# EAGLE library part 5CSEBA2U19C8N (library ICs)
CPLD, MAX V, 160 LE, 64EQFP
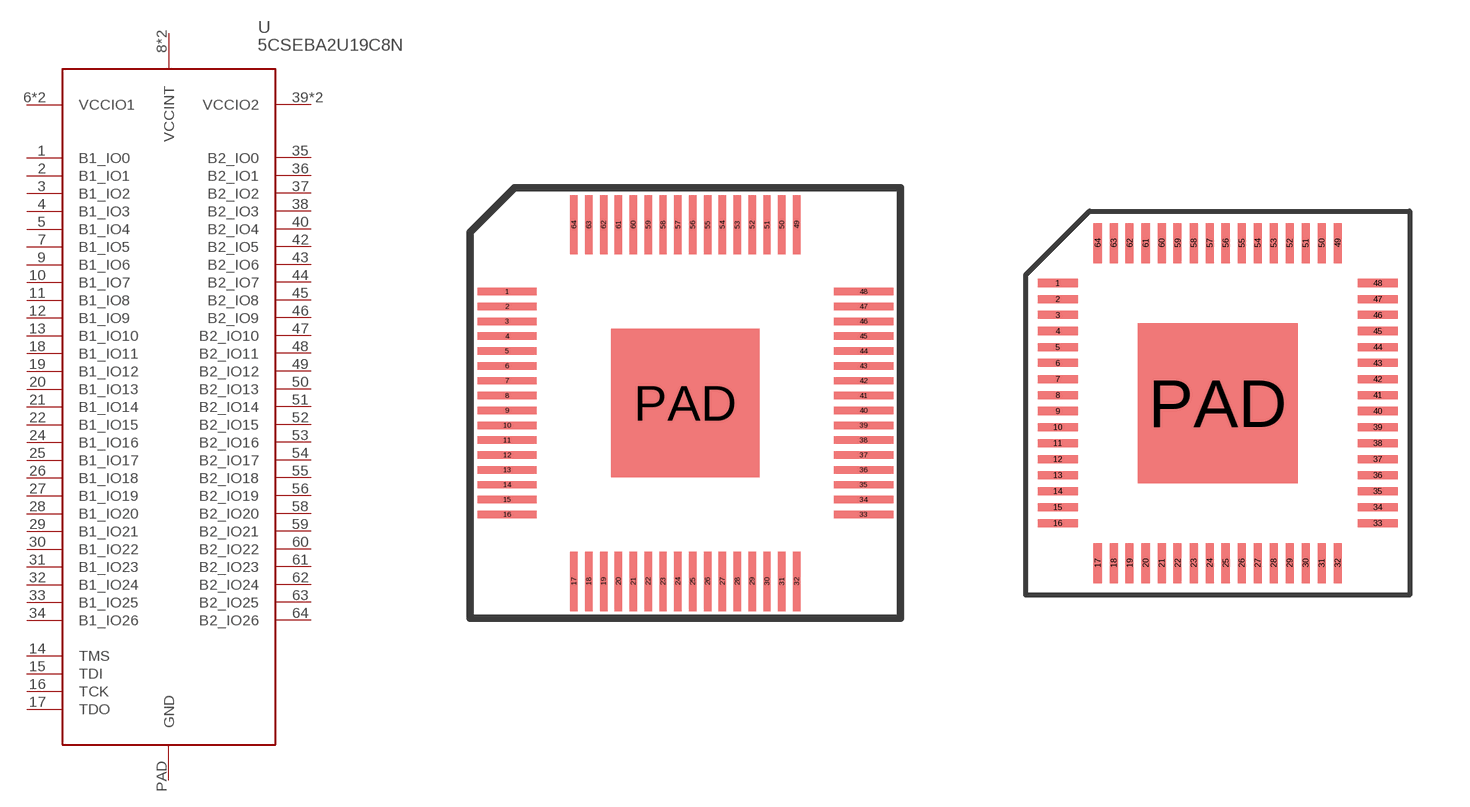
[diagram p81: symbol with the pads of QFP64_PAD; footprints QFP64_PAD, QFP64-0.4MM]

Designator prefix U

## 5CSEBA2U19C8N0.5MM (FARNELL: 2100795; PRICE_PER: 4.29; VALUE: 5M160Z)  [QFP64_PAD]
1  B1_IO0
2  B1_IO1
3  B1_IO2
4  B1_IO3
5  B1_IO4
6  VCCIO1
7  B1_IO5
8  VCCINT
9  B1_IO6
10  B1_IO7
11  B1_IO8
12  B1_IO9
13  B1_IO10
14  TMS
15  TDI
16  TCK
17  TDO
18  B1_IO11
19  B1_IO12
20  B1_IO13
21  B1_IO14
22  B1_IO15
23  VCCIO1
24  B1_IO16
25  B1_IO17
26  B1_IO18
27  B1_IO19
28  B1_IO20
29  B1_IO21
30  B1_IO22
31  B1_IO23
32  B1_IO24
33  B1_IO25
34  B1_IO26
35  B2_IO0
36  B2_IO1
37  B2_IO2
38  B2_IO3
39  VCCIO2
40  B2_IO4
41  VCCINT
42  B2_IO5
43  B2_IO6
44  B2_IO7
45  B2_IO8
46  B2_IO9
47  B2_IO10
48  B2_IO11
49  B2_IO12
50  B2_IO13
51  B2_IO14
52  B2_IO15
53  B2_IO16
54  B2_IO17
55  B2_IO18
56  B2_IO19
57  VCCIO2
58  B2_IO20
59  B2_IO21
60  B2_IO22
61  B2_IO23
62  B2_IO24
63  B2_IO25
64  B2_IO26
PAD  GND

## 5CSEBA2U19C8N  [QFP64-0.4MM]
Pads as for QFP64_PAD

## Footprint QFP64_PAD (pad centres in mm)
smd 2 x 0.25: 1 -6,3.75; 2 -6,3.25; 3 -6,2.75; 4 -6,2.25; 5 -6,1.75; 6 -6,1.25; 7 -6,0.75; 8 -6,0.25; 9 -6,-0.25; 10 -6,-0.75; 11 -6,-1.25; 12 -6,-1.75; 13 -6,-2.25; 14 -6,-2.75; 15 -6,-3.25; 16 -6,-3.75; 33 6,-3.75; 34 6,-3.25; 35 6,-2.75; 36 6,-2.25; 37 6,-1.75; 38 6,-1.25; 39 6,-0.75; 40 6,-0.25; 41 6,0.25; 42 6,0.75; 43 6,1.25; 44 6,1.75; 45 6,2.25; 46 6,2.75; 47 6,3.25; 48 6,3.75
smd 0.25 x 2: 17 -3.75,-6; 18 -3.25,-6; 19 -2.75,-6; 20 -2.25,-6; 21 -1.75,-6; 22 -1.25,-6; 23 -0.75,-6; 24 -0.25,-6; 25 0.25,-6; 26 0.75,-6; 27 1.25,-6; 28 1.75,-6; 29 2.25,-6; 30 2.75,-6; 31 3.25,-6; 32 3.75,-6; 49 3.75,6; 50 3.25,6; 51 2.75,6; 52 2.25,6; 53 1.75,6; 54 1.25,6; 55 0.75,6; 56 0.25,6; 57 -0.25,6; 58 -0.75,6; 59 -1.25,6; 60 -1.75,6; 61 -2.25,6; 62 -2.75,6; 63 -3.25,6; 64 -3.75,6
smd 5 x 5: PAD 0,0

## Footprint QFP64-0.4MM (pad centres in mm)
smd 1 x 0.2: 1 -4,3; 2 -4,2.6; 3 -4,2.2; 4 -4,1.8; 5 -4,1.4; 6 -4,1; 7 -4,0.6; 8 -4,0.2; 9 -4,-0.2; 10 -4,-0.6; 11 -4,-1; 12 -4,-1.4; 13 -4,-1.8; 14 -4,-2.2; 15 -4,-2.6; 16 -4,-3; 33 4,-3; 34 4,-2.6; 35 4,-2.2; 36 4,-1.8; 37 4,-1.4; 38 4,-1; 39 4,-0.6; 40 4,-0.2; 41 4,0.2; 42 4,0.6; 43 4,1; 44 4,1.4; 45 4,1.8; 46 4,2.2; 47 4,2.6; 48 4,3
smd 0.2 x 1: 17 -3,-4; 18 -2.6,-4; 19 -2.2,-4; 20 -1.8,-4; 21 -1.4,-4; 22 -1,-4; 23 -0.6,-4; 24 -0.2,-4; 25 0.2,-4; 26 0.6,-4; 27 1,-4; 28 1.4,-4; 29 1.8,-4; 30 2.2,-4; 31 2.6,-4; 32 3,-4; 49 3,4; 50 2.6,4; 51 2.2,4; 52 1.8,4; 53 1.4,4; 54 1,4; 55 0.6,4; 56 0.2,4; 57 -0.2,4; 58 -0.6,4; 59 -1,4; 60 -1.4,4; 61 -1.8,4; 62 -2.2,4; 63 -2.6,4; 64 -3,4
smd 4 x 4: PAD 0,0